# Altium footprint library Connector-RF.PcbLib: 6 footprints
Each footprint in its own frame and in the unit in brackets; x right, y up, seen from the top. Pads: shape width x height; smd on the part's side, far side on the other; paste and mask are expansions set on the pad; w line width, h text height; cw(c..) or ccw(c..) is an arc to the next point about the centre after c.
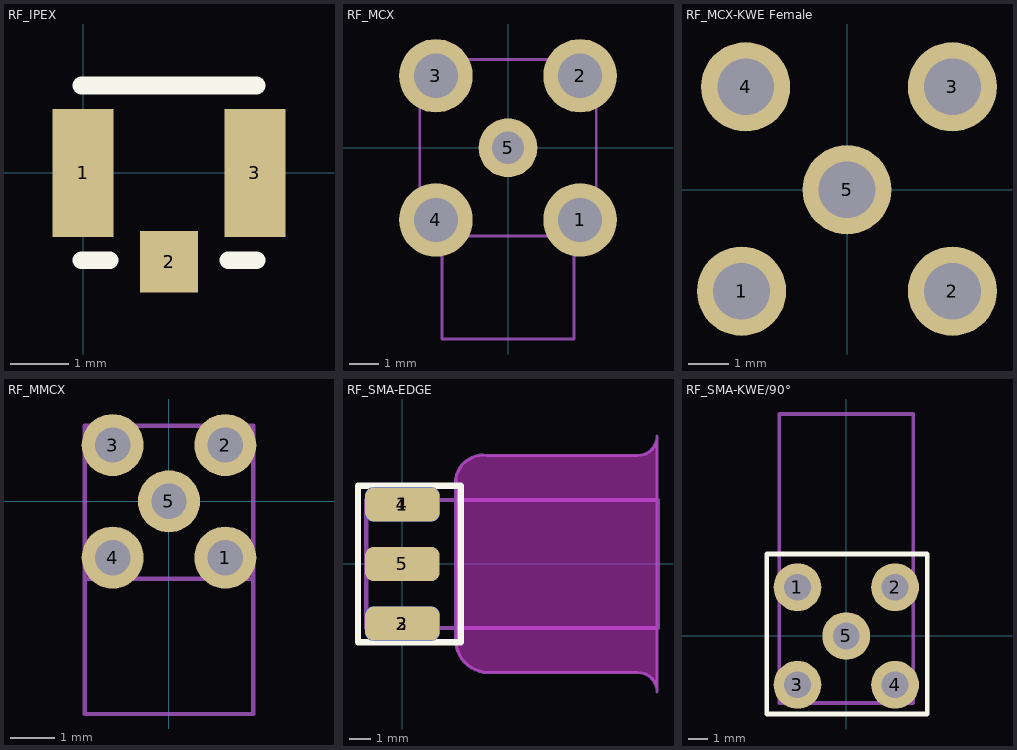
[diagram p0: the footprints below, top view; thin cyan lines are the x and y axes]

## RF_IPEX [mm]
pads (3):
  rect 1.05x2.2 smd: 1(0,0) 3(2.95,0)
  rect 1x1.05 smd: 2(1.475,-1.525)
Top Overlay:
  lines w0.305: -0.025,-1.5 0.459,-1.5 ; 2.491,-1.5 2.975,-1.5 ; -0.025,1.5 1.475,1.5 2.975,1.5 -0.025,1.5
Top Value:
  text "'.Comment'" at -1.354,-0.454 h1.27
Top Designator:
  text "'.Designator'" at -2.973,-0.594 h1.52
3D body "IPEX.STEP": height 1.25, standoff -0.01, extent 0,-1.55 3,1.55

## RF_MCX [mm] "MCX PCB Skt 50Ohm Gold Pl"
pads (5):
  round 2.5 hole 1.5: 1(2.45,-2.45) 2(2.45,2.45) 3(-2.45,2.45) 4(-2.45,-2.45)
  round 2 hole 1.1: 5(0,0)
Top Component Outline:
  lines w0.1: -2.25,-3 -2.25,-6.5 2.25,-6.5 2.25,-3 ; -3,-3 -3,3 3,3 3,-3 -3,-3
Top Component Center:
  lines w0.1: -0.5,0 0.5,0 ; 0,-0.5 0,0.5
Top Value:
  text "'.Comment'" at -2.754,-0.454 h1.27
Top Designator:
  text "'.Designator'" at -4.373,-0.594 h1.52
Top Assembly (Mech20):
  lines w0.1: -2.25,-3 -2.25,-6.5 2.25,-6.5 2.25,-3 ; -3,-3 -3,3 3,3 3,-3 -3,-3
3D body "MCX.stp": height 6.2, standoff -3.8, extent -3,-6.5 3,3

## RF_MCX-KWE Female [mm]
pads (5):
  round 2.2 hole 1.4: 1(-2.6,-2.5) 2(2.6,-2.5) 3(2.6,2.54) 4(-2.5,2.54) 5(0,0)

## RF_MMCX [mm] "MMCX R/A PCB Skt 50Ohm Gold Pl"
pads (5):
  round 1.4 hole 0.8: 1(1.27,-1.27) 2(1.27,1.27) 3(-1.27,1.27) 4(-1.27,-1.27) 5(0,0)
Top Component Center:
  lines w0.1: -0.5,0 0.5,0 ; 0,-0.5 0,0.5
Top Value:
  text "'.Comment'" at -2.754,-0.38 h1.27
Top Designator:
  text "'.Designator'" at -4.373,-0.594 h1.52
Top Assembly (Mech20):
  lines w0.1: -1.9,-1.75 1.9,-1.75 ; -1.9,-4.8 -1.9,1.7 1.9,1.7 1.9,-4.8 -1.9,-4.8
3D body "MMCX.stp": height 3.9, standoff -2.9, extent -1.9,-4.8 1.9,1.7

## RF_SMA-EDGE [mm]
pads (5):
  rrect50% 3.5x1.6 smd: 1(0,2.8) 2(0,-2.8) 5(0,0)
  rrect50% 3.5x1.6 smd far side: 3(0,-2.8) 4(0,2.8)
Top Overlay:
  lines w0.3: -2.086,-3.683 -2.086,3.683 2.74,3.683 2.74,-3.683 -2.086,-3.683
Keep-Out Layer:
  board cut-out: 2.5,-3.5 2.5,4 2.52,4.128 2.608,4.372 2.743,4.593 2.918,4.784 3.127,4.937 3.361,5.047 3.613,5.108 3.872,5.12 4,5.1 11.059,5.1 11.147,5.104 11.32,5.139 11.483,5.206 11.63,5.304 11.755,5.429 11.853,5.576 11.92,5.739 11.954,5.912 11.959,6 11.959,-6 11.954,-5.912 11.92,-5.739 11.853,-5.576 11.755,-5.429 11.63,-5.304 11.483,-5.206 11.32,-5.139 11.147,-5.104 11.059,-5.1 4,-5.1 3.847,-5.095 3.55,-5.026 3.271,-4.9 3.023,-4.722 2.814,-4.499 2.653,-4.24 2.545,-3.954 2.495,-3.653
Board Outline:
  lines w0.15: 2.5,-3.5 ccw(c4.05,-3.55) 4,-5.1 11.059,-5.1 cw(c11.059,-6) 11.959,-6 11.959,6 cw(c11.059,6) 11.059,5.1 4,5.1 ccw(c3.8,3.8) 2.5,4 2.5,-3.5
Top Value:
  text "'.Comment'" at -0.579,4.333 h2
Top Designator:
  text "'.Designator'" at -0.7,5.829 h2
Top Assembly (Mech20):
  lines w0.2: -1.7,-3 12,-3 12,3 -1.7,3 -1.7,-3
3D body "SMA Female for PCB edge Mount.STEP": height 3.5, standoff -2.55, extent -1.641,-3 11.959,3

## RF_SMA-KWE/90° [mm]
pads (5):
  round 2.5 hole 1.4: 1(-2.55,2.55) 2(2.55,2.55) 3(-2.55,-2.55) 4(2.55,-2.55) 5(0,0)
Top Overlay:
  lines w0.254: -4.153,-4.077 4.229,-4.077 4.229,4.293 -4.153,4.293 -4.153,-4.077
Top Value:
  text "'.Comment'" at -4.333,-0.579 h2
Top Designator:
  text "'.Designator'" at -5.829,-0.7 h2
Top Assembly (Mech20):
  lines w0.2: -3.5,-3.5 -3.5,4.4 -3.5,11.6 3.5,11.6 3.5,-3.5 -3.5,-3.5
3D body "天线插座SMA-J-P-H": height 9.76, standoff -4.34, extent -3.5,-3.5 3.5,11.6